# EAGLE library part 51281-0694 (library con-molex-51281)
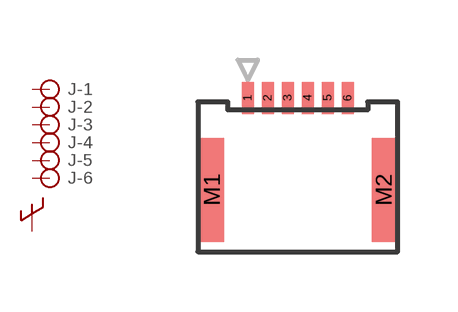
[diagram p0: symbol with the pads of 51281-0694; footprint 51281-0694]

Designator prefix J; gates -1=PIN -2=PIN -3=PIN -4=PIN -5=PIN -6=PIN -M1=MECHANICAL

## 51281-0694 (MF: MOLEX; MPN: 51281-0694)  [51281-0694]
1  -1:P  pas
2  -2:P  pas
3  -3:P  pas
4  -4:P  pas
5  -5:P  pas
6  -6:P  pas
M1  -M1:M  pas
M2  -M1:M  pas

## Footprint 51281-0694 (pad centres in mm)
smd 0.3 x 0.8: 1 -1.25,2.3; 2 -0.75,2.3; 3 -0.25,2.3; 4 0.25,2.3; 5 0.75,2.3; 6 1.25,2.3
smd 0.6 x 2.6: M1 -2.15,0; M2 2.15,0